# Altium footprint library Connectors.PcbLib: 24 footprints (part 1 of 2)
Each footprint in its own frame and in the unit in brackets; x right, y up, seen from the top. Pads: shape width x height; smd on the part's side, far side on the other; paste and mask are expansions set on the pad; w line width, h text height; cw(c..) or ccw(c..) is an arc to the next point about the centre after c.
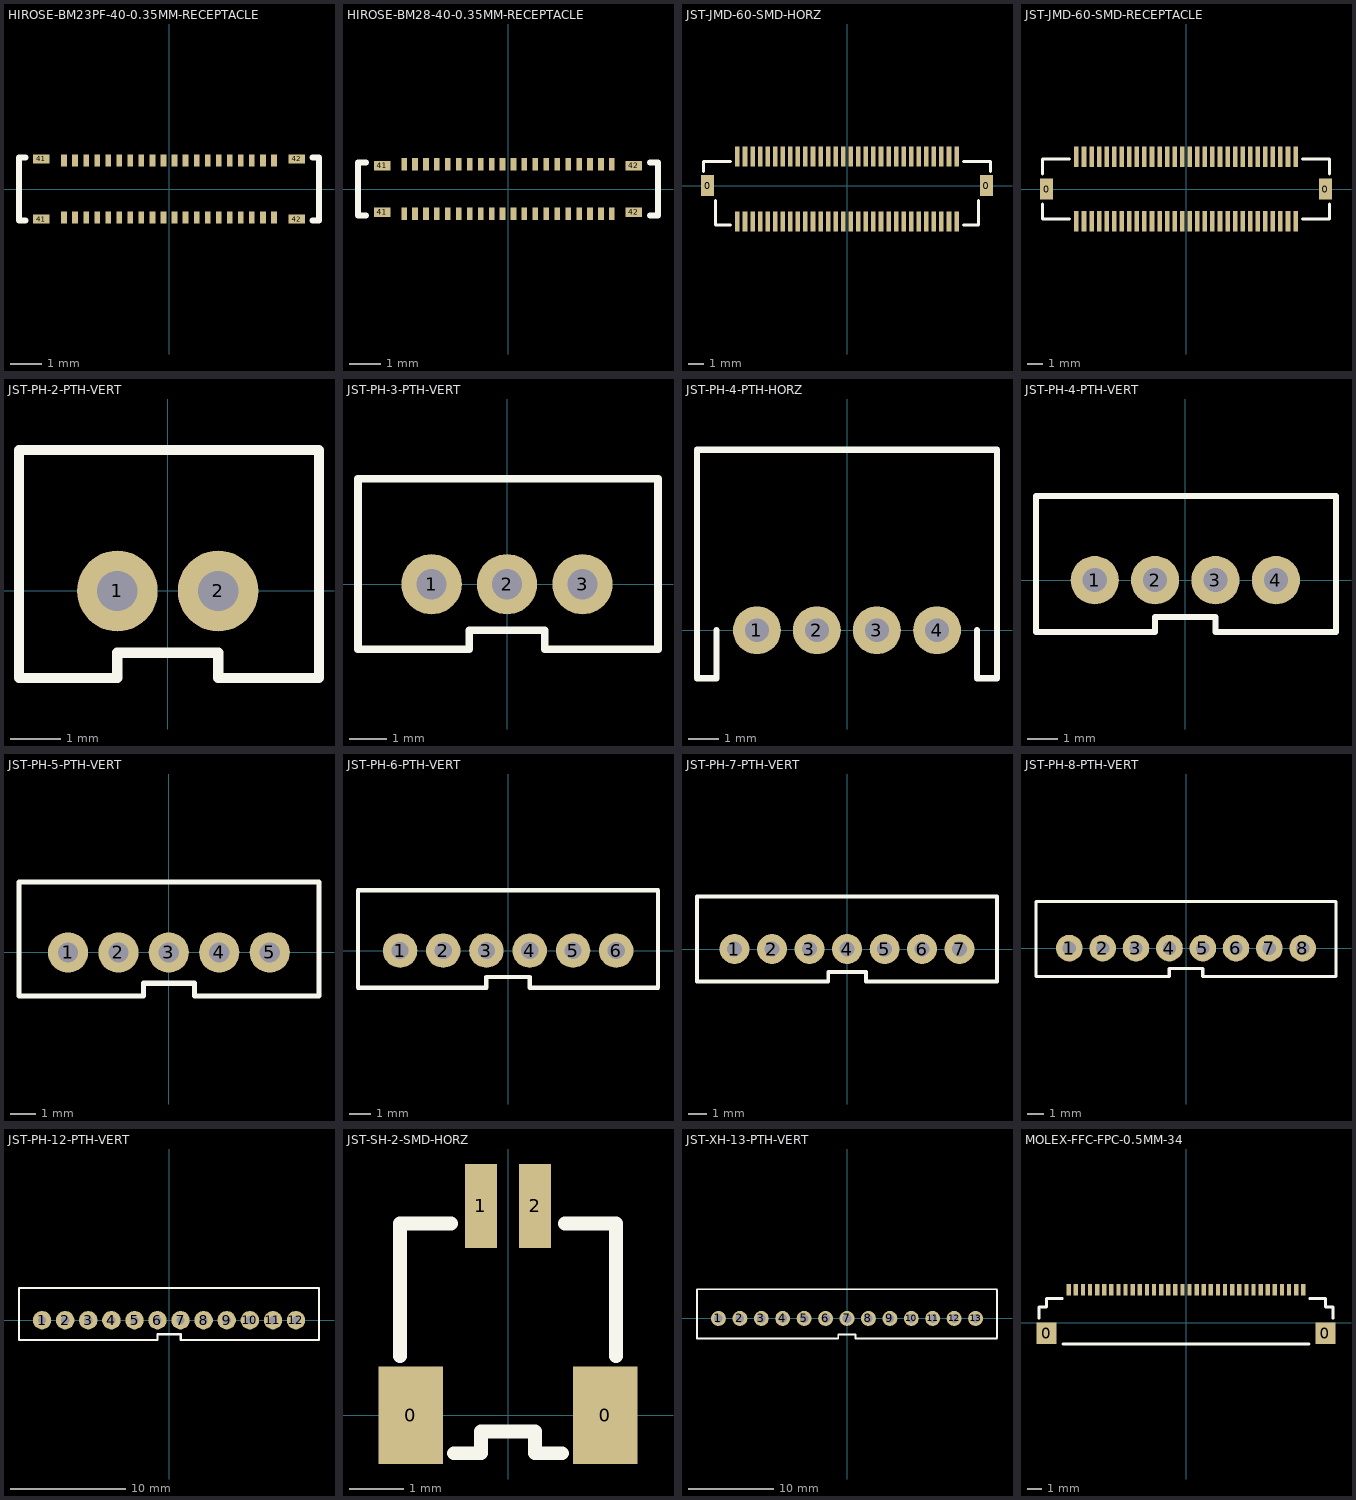
[diagram p0: the footprints below, top view; thin cyan lines are the x and y axes]

## HIROSE-BM23PF-40-0.35MM-RECEPTACLE [mm]
pads (44):
  rect 0.18x0.38 smd: 1(-3.325,0.91) 2(-2.975,0.91) 3(-2.625,0.91) 4(-2.275,0.91) 5(-1.925,0.91) 6(-1.575,0.91) 7(-1.225,0.91) 8(-0.875,0.91) 9(-0.525,0.91) 10(-0.175,0.91) 11(0.175,0.91) 12(0.525,0.91) 13(0.875,0.91) 14(1.225,0.91) 15(1.575,0.91) 16(1.925,0.91) 17(2.275,0.91) 18(2.625,0.91) 19(2.975,0.91) 20(3.325,0.91) 21(3.325,-0.91) 22(2.975,-0.91) 23(2.625,-0.91) 24(2.275,-0.91) 25(1.925,-0.91) 26(1.575,-0.91) 27(1.225,-0.91) 28(0.875,-0.91) 29(0.525,-0.91) 30(0.175,-0.91) 31(-0.175,-0.91) 32(-0.525,-0.91) 33(-0.875,-0.91) 34(-1.225,-0.91) 35(-1.575,-0.91) 36(-1.925,-0.91) 37(-2.275,-0.91) 38(-2.625,-0.91) 39(-2.975,-0.91) 40(-3.325,-0.91)
  rect 0.52x0.3 smd: 41(-4.045,-0.95) 41(-4.045,0.95) 42(4.045,-0.95) 42(4.045,0.95)
Top Overlay:
  lines w0.2: -4.55,-1 -4.75,-1 -4.75,1 -4.55,1 ; 4.55,-1 4.75,-1 4.75,1 4.55,1
3D body "BM23PF0.8-40DS-0.35V(51)_4800369051_3dstep.stp": height 0.79, standoff -0.01, extent -4.75,-1.005 4.75,0.975

## HIROSE-BM28-40-0.35MM-RECEPTACLE [mm]
pads (44):
  rect 0.18x0.41 smd: 1(-3.325,0.795) 2(-2.975,0.795) 3(-2.625,0.795) 4(-2.275,0.795) 5(-1.925,0.795) 6(-1.575,0.795) 7(-1.225,0.795) 8(-0.875,0.795) 9(-0.525,0.795) 10(-0.175,0.795) 11(0.175,0.795) 12(0.525,0.795) 13(0.875,0.795) 14(1.225,0.795) 15(1.575,0.795) 16(1.925,0.795) 17(2.275,0.795) 18(2.625,0.795) 19(2.975,0.795) 20(3.325,0.795) 21(3.325,-0.795) 22(2.975,-0.795) 23(2.625,-0.795) 24(2.275,-0.795) 25(1.925,-0.795) 26(1.575,-0.795) 27(1.225,-0.795) 28(0.875,-0.795) 29(0.525,-0.795) 30(0.175,-0.795) 31(-0.175,-0.795) 32(-0.525,-0.795) 33(-0.875,-0.795) 34(-1.225,-0.795) 35(-1.575,-0.795) 36(-1.925,-0.795) 37(-2.275,-0.795) 38(-2.625,-0.795) 39(-2.975,-0.795) 40(-3.325,-0.795)
  rect 0.53x0.31 smd: 41(-4.03,-0.745) 41(-4.03,0.745) 42(4.03,-0.745) 42(4.03,0.745)
Top Overlay:
  lines w0.2: -4.55,-0.85 -4.8,-0.85 -4.8,0.85 -4.55,0.85 ; 4.55,-0.85 4.8,-0.85 4.8,0.85 4.55,0.85
3D body "BM28-40DS.stp": height 0.6, standoff 0, extent -4.8,-0.85 4.8,0.85

## JST-JMD-60-SMD-HORZ [mm]
pads (64):
  rect 0.85x1.4 smd: 0(-9.225,0) 0(9.225,0)
  rect 0.3x1.35 smd: 1(-7.25,1.925) 1(-7.25,1.925) 2(-6.75,1.925) 3(-6.25,1.925) 4(-5.75,1.925) 5(-5.25,1.925) 6(-4.75,1.925) 7(-4.25,1.925) 8(-3.75,1.925) 9(-3.25,1.925) 10(-2.75,1.925) 11(-2.25,1.925) 12(-1.75,1.925) 13(-1.25,1.925) 14(-0.75,1.925) 15(-0.25,1.925) 16(0.25,1.925) 17(0.75,1.925) 18(1.25,1.925) 19(1.75,1.925) 20(2.25,1.925) 21(2.75,1.925) 22(3.25,1.925) 23(3.75,1.925) 24(4.25,1.925) 25(4.75,1.925) 26(5.25,1.925) 27(5.75,1.925) 28(6.25,1.925) 29(6.75,1.925) 30(7.25,1.925) 31(7.25,-2.375) 31(7.25,-2.375) 32(6.75,-2.375) 33(6.25,-2.375) 34(5.75,-2.375) 35(5.25,-2.375) 36(4.75,-2.375) 37(4.25,-2.375) 38(3.75,-2.375) 39(3.25,-2.375) 40(2.75,-2.375) 41(2.25,-2.375) 42(1.75,-2.375) 43(1.25,-2.375) 44(0.75,-2.375) 45(0.25,-2.375) 46(-0.25,-2.375) 47(-0.75,-2.375) 48(-1.25,-2.375) 49(-1.75,-2.375) 50(-2.25,-2.375) 51(-2.75,-2.375) 52(-3.25,-2.375) 53(-3.75,-2.375) 54(-4.25,-2.375) 55(-4.75,-2.375) 56(-5.25,-2.375) 57(-5.75,-2.375) 58(-6.25,-2.375) 59(-6.75,-2.375) 60(-7.25,-2.375)
Top Overlay:
  lines w0.2: -9.5,0.95 -9.5,1.6 -7.7,1.6 ; -8.7,-1 -8.7,-2.6 -7.7,-2.6 ; 7.7,-2.6 8.7,-2.6 8.7,-1 ; 7.7,1.6 9.5,1.6 9.5,0.95
3D body "60PS-JMDSS-G-1-TF.STEP": height 4.73, standoff -0.07, extent -9.55,-2.8 9.55,2.35

## JST-JMD-60-SMD-RECEPTACLE [mm]
pads (64):
  rect 0.85x1.4 smd: 0(-9.225,0) 0(9.225,0)
  rect 0.3x1.35 smd: 1(7.25,2.125) 1(7.25,2.125) 2(6.75,2.125) 3(6.25,2.125) 4(5.75,2.125) 5(5.25,2.125) 6(4.75,2.125) 7(4.25,2.125) 8(3.75,2.125) 9(3.25,2.125) 10(2.75,2.125) 11(2.25,2.125) 12(1.75,2.125) 13(1.25,2.125) 14(0.75,2.125) 15(0.25,2.125) 16(-0.25,2.125) 17(-0.75,2.125) 18(-1.25,2.125) 19(-1.75,2.125) 20(-2.25,2.125) 21(-2.75,2.125) 22(-3.25,2.125) 23(-3.75,2.125) 24(-4.25,2.125) 25(-4.75,2.125) 26(-5.25,2.125) 27(-5.75,2.125) 28(-6.25,2.125) 29(-6.75,2.125) 30(-7.25,2.125) 31(-7.25,-2.125) 31(-7.25,-2.125) 32(-6.75,-2.125) 33(-6.25,-2.125) 34(-5.75,-2.125) 35(-5.25,-2.125) 36(-4.75,-2.125) 37(-4.25,-2.125) 38(-3.75,-2.125) 39(-3.25,-2.125) 40(-2.75,-2.125) 41(-2.25,-2.125) 42(-1.75,-2.125) 43(-1.25,-2.125) 44(-0.75,-2.125) 45(-0.25,-2.125) 46(0.25,-2.125) 47(0.75,-2.125) 48(1.25,-2.125) 49(1.75,-2.125) 50(2.25,-2.125) 51(2.75,-2.125) 52(3.25,-2.125) 53(3.75,-2.125) 54(4.25,-2.125) 55(4.75,-2.125) 56(5.25,-2.125) 57(5.75,-2.125) 58(6.25,-2.125) 59(6.75,-2.125) 60(7.25,-2.125)
Top Overlay:
  lines w0.2: -9.5,-1 -9.5,-2 -7.7,-2 ; -9.5,1 -9.5,2 -7.7,2 ; 7.7,-2 9.5,-2 9.5,-1 ; 7.7,2 9.5,2 9.5,1
3D body "60R-JMDSS-G-1-TF(S).STEP": height 3.05, standoff -0.05, extent -9.55,-2.5 9.55,2.5

## JST-PH-2-PTH-VERT [mm]
pads (2):
  round 1.6 hole 0.8: 1(-1,0) 2(1,0)
Top Overlay:
  lines w0.203: -2.95,-1.723 -2.95,2.794 3,2.794 3,-1.723 1,-1.723 1,-1.223 -1,-1.223 -1,-1.723 -2.95,-1.723
3D body "B2B-PH-K-S.STEP": height 6, standoff -3.4, extent -2.95,-1.7 2.95,2.8

## JST-PH-3-PTH-VERT [mil]
pads (3):
  round 63 hole 31.5: 1(-78.74,0) 2(0,0) 3(78.74,0)
Top Overlay:
  lines w7.99: -155.51,-67.84 -39.37,-67.84
  lines w8: -155.51,-67.84 -155.51,110 157.48,110 157.48,-67.84 39.37,-67.84 39.37,-48.16 -39.37,-48.16 -39.37,-67.84
3D body "B3B-PH-K-S.STEP": height 236.22, standoff -133.86, extent -154.52,-66.92 156.5,110.24

## JST-PH-4-PTH-HORZ [mil]
pads (4):
  round 63 hole 31.5: 1(-118.37,0) 2(-39.63,0) 3(39.11,0) 4(118.11,0)
Top Overlay:
  lines w8: -197.11,237 -197.11,-62.99 -171.52,-62.99 -171.52,0 ; -196.85,237 196.85,237 196.85,-62.99 170.85,-62.99 170.85,0

## JST-PH-4-PTH-VERT [mil]
pads (4):
  round 63 hole 31.5: 1(-118.11,0) 2(-39.37,0) 3(39.37,0) 4(118.37,0)
Top Overlay:
  lines w8: -194.88,-67.84 -39.37,-67.84 -39.37,-48.16 39.37,-48.16 39.37,-67.84 196.85,-67.84 196.85,110 -194.88,110 -194.88,-67.84
3D body "B4B-PH-K-S.STEP": height 236.22, standoff -133.86, extent -194.88,-66.92 194.89,110.24

## JST-PH-5-PTH-VERT [mil]
pads (5):
  round 63 hole 31.5: 1(-157.48,0) 2(-78.74,0) 3(0,0) 4(79,0) 5(158,0)
Top Overlay:
  lines w8: -234.25,-67.84 -234.25,110 235,110 235,-67.84 40,-67.84 40,-48.16 -39.37,-48.16 -39.37,-67.84 -234.25,-67.84
3D body "B5B-PH-K-S.STEP": height 236.22, standoff -133.86, extent -236.22,-68.9 232.28,108.27

## JST-PH-6-PTH-VERT [mil]
pads (6):
  round 63 hole 31.5: 1(-196.85,0) 2(-118.11,0) 3(-39.37,0) 4(39.63,0) 5(118.63,0) 6(197.37,0)
Top Overlay:
  lines w7.87: -273.62,-67.84 -39.37,-67.84 ; 40,-67.84 273.62,-67.84
  lines w8: -273.62,-67.84 -273.62,110 271.65,110 ; -39.37,-67.84 -39.37,-48.16 40,-48.16 40,-67.84 ; 273.62,-67.84 273.62,110
3D body "B6B-PH-K-S.STEP": height 236.22, standoff -133.86, extent -273.62,-66.93 273.62,110.24

## JST-PH-7-PTH-VERT [mil]
pads (7):
  round 63 hole 31.5: 1(-236.22,0) 2(-157.48,0) 3(-78.74,0) 4(0.26,0) 5(79.26,0) 6(157.48,0) 7(236.22,0)
Top Overlay:
  lines w8: -314.96,-67.84 -314.96,110 314.96,110 314.96,-67.84 40,-67.84 40,-48.16 -39.37,-48.16 -39.37,-67.84 -314.96,-67.84
3D body "B7B-PH-K-S.STEP": height 236.22, standoff -133.86, extent -316.93,-66.93 309.06,110.23

## JST-PH-8-PTH-VERT [mil]
pads (8):
  round 63 hole 31.5: 1(-275.59,0) 2(-196.85,0) 3(-118.11,0) 4(-39.11,0) 5(39.89,0) 6(118.11,0) 7(196.85,0) 8(275.59,0)
Top Overlay:
  lines w8: -354.33,-66.93 -354.33,110 354.33,110 354.33,-66.93 39.37,-66.93 39.37,-48.16 -39.37,-48.16 -39.37,-66.93 -354.33,-66.93
3D body "B8B-PH-K-S.STEP": height 236.22, standoff -133.86, extent -352.36,-67.16 352.36,110

## JST-PH-12-PTH-VERT [mil]
pads (12):
  round 63 hole 28: 1(-433.07,0) 2(-354.33,0) 3(-275.59,0) 4(-196.59,0) 5(-117.59,0) 6(-39.37,0) 7(39.37,0) 8(118.11,0) 9(196.85,0) 10(275.85,0) 11(354.85,0) 12(433.07,0)
Top Overlay:
  lines w8: -511.81,-67.84 -39.37,-67.84 -39.37,-48.16 40,-48.16 40,-67.84 511.81,-67.84 511.81,110 -511.81,110 -511.81,-67.84
3D body "B12B-PH-K-S.STEP": height 236.22, standoff -133.86, extent -511.81,-70.87 507.87,106.3

## JST-SH-2-SMD-HORZ [mm]
pads (4):
  rect 1.2x1.8 smd: 0(-1.8,0) 0(1.8,0)
  rect 0.6x1.55 smd: 1(-0.5,3.875) 2(0.5,3.875)
Top Overlay:
  lines w0.254: -2,1.1 -2,3.55 -1.05,3.55 ; -1,-0.7 -0.5,-0.7 -0.5,-0.3 0.5,-0.3 0.5,-0.7 1,-0.7 ; 1.05,3.55 2,3.55 2,1.1
3D body "SM02B-SRSS-TB.STEP": height 2.96, standoff 0, extent -2,-0.7 2,4.25

## JST-XH-13-PTH-VERT [mm]
pads (13):
  round 1.75 hole 1: 1(-15,0) 2(-12.5,0) 3(-10,0) 4(-7.5,0) 5(-5,0) 6(-2.5,0) 7(0,0) 8(2.5,0) 9(5,0) 10(7.5,0) 11(10,0) 12(12.5,0) 13(15,0)
Top Overlay:
  lines w0.203: -1.03,-2.35 -17.5,-2.35 -17.5,3.4 17.5,3.4 ; -1.014,-2.358 -1.014,-1.858 1.002,-1.858 1.002,-2.358 ; 1.002,-2.35 17.45,-2.35 17.5,-2.3 17.5,3.3
3D body "B13B-XH-A.STEP": height 7, standoff -3.4, extent -17.45,-2.375 17.45,3.375

## MOLEX-FFC-FPC-0.5MM-34 [mm]
pads (37):
  rect 1.4x1.5 smd: 0(-9.8,-0.75) 0(9.8,-0.75)
  rect 0.3x0.8 smd: 1(-8.25,2.3) 1(-8.25,2.3) 2(-7.75,2.3) 3(-7.25,2.3) 4(-6.75,2.3) 5(-6.25,2.3) 6(-5.75,2.3) 7(-5.25,2.3) 8(-4.75,2.3) 9(-4.25,2.3) 10(-3.75,2.3) 11(-3.25,2.3) 12(-2.75,2.3) 13(-2.25,2.3) 14(-1.75,2.3) 15(-1.25,2.3) 16(-0.75,2.3) 17(-0.25,2.3) 18(0.25,2.3) 19(0.75,2.3) 20(1.25,2.3) 21(1.75,2.3) 22(2.25,2.3) 23(2.75,2.3) 24(3.25,2.3) 25(3.75,2.3) 26(4.25,2.3) 27(4.75,2.3) 28(5.25,2.3) 29(5.75,2.3) 30(6.25,2.3) 31(6.75,2.3) 32(7.25,2.3) 33(7.75,2.3) 34(8.25,2.3)
Top Overlay:
  lines w0.2: -10.35,0.3 -10.35,1.1 -9.8,1.1 -9.8,1.7 -8.7,1.7 ; -8.65,-1.5 8.65,-1.5 ; 8.7,1.7 9.8,1.7 9.8,1.1 10.35,1.1 10.35,0.3
3D body "512963494.stp": height 1.25, standoff -0.05, extent -10.35,-1.799 10.35,2.5